# Altium footprint library PCB - LEADLESS - DFN - MAXIM TDFN-10 T1032N+1.PCBLIB: 1 footprints
Each footprint in its own frame and in the unit in brackets; x right, y up, seen from the top. Pads: shape width x height; smd on the part's side, far side on the other; paste and mask are expansions set on the pad; w line width, h text height; cw(c..) or ccw(c..) is an arc to the next point about the centre after c.
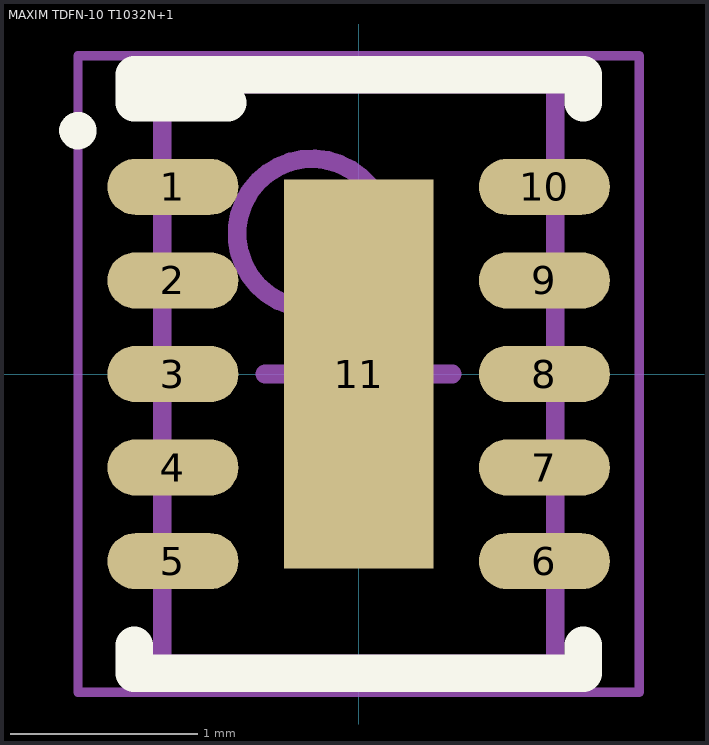
[diagram p0: the footprint, top view; thin cyan lines are the x and y axes]

## MAXIM TDFN-10 T1032N+1 [mm] "SON, 10-Leads, Body 3.00x2.00mm, Pitch 0.50mm, Thermal Pad 0.00x0.00mm"
height 0.8
pads (11):
  oval 0.7x0.3 smd: 1(-0.992,1) 2(-0.992,0.5) 3(-0.992,0) 4(-0.992,-0.5) 5(-0.992,-1) 6(0.992,-1) 7(0.992,-0.5) 8(0.992,0) 9(0.992,0.5) 10(0.992,1)
  rect 0.8x2.08 smd: 11(0,0)
Top Overlay:
  circle w0.1: c-1.5,1.3 r0.05
  lines w0.2: -1.2,-1.45 -1.2,-1.6 1.2,-1.6 1.2,-1.45 ; -0.7,1.45 -1.2,1.45 -1.2,1.6 1.2,1.6 1.2,1.45
Mechanical 13:
  circle w0.1: c-0.25,0.75 r0.4
  lines w0.1: -1.05,-1.55 -1.05,1.55 1.05,1.55 1.05,-1.55 -1.05,-1.55
Mechanical 15:
  lines w0.05: -1.5,-1.7 -1.5,1.7 1.5,1.7 1.5,-1.7 -1.5,-1.7
  lines w0.1: -0.5,0 0.5,0 ; 0,-0.5 0,0.5
3D body "MAXIM TDFN-10 T1032N+1.step": height 0.8, standoff 0, extent -1.051,-1.55 1.051,1.55